# EAGLE library part L6506D (library ST_Microelctronics_By_element14_Batch_1)
CURRENT CONTROLLER FOR STEPPING MOTORS
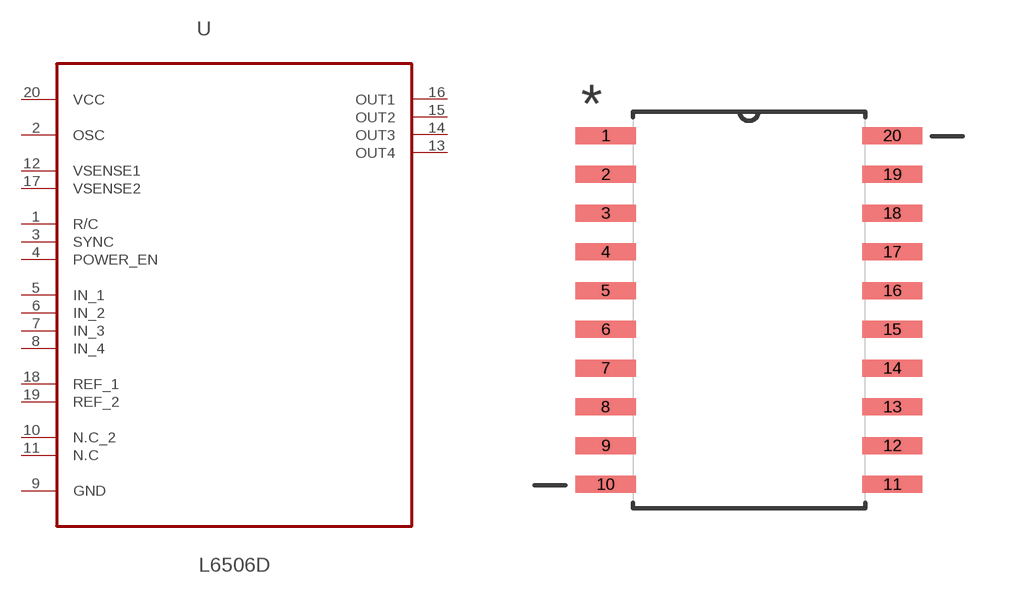
[diagram p47: symbol with the pads of SOIC127P1032X265-20N; footprint SOIC127P1032X265-20N]

Designator prefix U

## L6506D (MPN: L6506D; OC_FARNELL: 1467710; OC_NEWARK: 89K0770; PACKAGE: SOICW-20; SUPPLIER: STMICROELECTRONICS)  [SOIC127P1032X265-20N]
1  R/C  in
2  OSC  in
3  SYNC  in
4  POWER_EN  in
5  IN_1  in
6  IN_2  in
7  IN_3  in
8  IN_4  in
9  GND  pas
10  N.C_2  nc
11  N.C  nc
12  VSENSE1  in
13  OUT4  out
14  OUT3  out
15  OUT2  out
16  OUT1  out
17  VSENSE2  in
18  REF_1  in
19  REF_2  in
20  VCC  pwr

## Footprint SOIC127P1032X265-20N (pad centres in mm)
smd 1.981 x 0.559: 1 -4.699,5.715; 2 -4.699,4.445; 3 -4.699,3.175; 4 -4.699,1.905; 5 -4.699,0.635; 6 -4.699,-0.635; 7 -4.699,-1.905; 8 -4.699,-3.175; 9 -4.699,-4.445; 10 -4.699,-5.715; 11 4.699,-5.715; 12 4.699,-4.445; 13 4.699,-3.175; 14 4.699,-1.905; 15 4.699,-0.635; 16 4.699,0.635; 17 4.699,1.905; 18 4.699,3.175; 19 4.699,4.445; 20 4.699,5.715